# Altium schematic symbol library MX25R6435FZNIL0.Schlib: 1 symbol
Pins are listed as number, name and electrical type; pins without a type are passive.

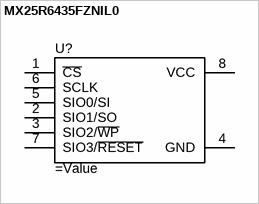
[diagram p0: symbol MX25R6435FZNIL0]

## MX25R6435FZNIL0
designator U?
Ultra low power, 64M-bit, serial multi I/O flash memory
pins: 1 ~{CS}, 2 SIO1/SO, 3 SIO2/~{WP}, 4 GND, 5 SIO0/SI, 6 SCLK, 7 SIO3/~{RESET}, 8 VCC, 9 GND hidden